# Altium schematic symbol library buton.SchLib: 1 symbol
Pins are listed as number, name and electrical type; pins without a type are passive.

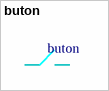
[diagram p0: symbol buton]

## buton
designator buton  (value not drawn)
footprint buton
pins: 1, 2